# EAGLE library part ADC_TLV2544ID (library HuskyRobotics2017-18)
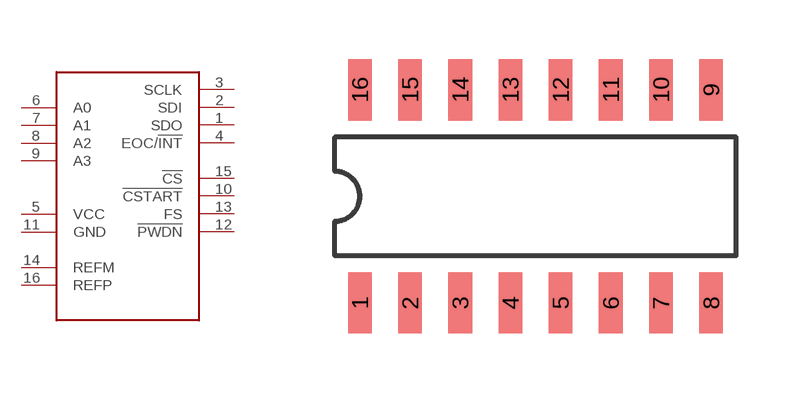
[diagram p4: symbol with the pads of 16SOIC3.9; footprint 16SOIC3.9]

Designator prefix -

## ADC_TLV2544IDTI_ADC_TLV2544ID  [16SOIC3.9]
1  SDO
2  SDI
3  SCLK
4  EOC/!INT
5  VCC
6  A0
7  A1
8  A2
9  A3
10  !CSTART
11  GND
12  !PWDN
13  FS
14  REFM
15  !CS
16  REFP

## Footprint 16SOIC3.9 (pad centres in mm)
Description: This footprint is a 16 pin 3.9mm SOIC device. It was created for the Texas Instruments TLV2544ID. <http://www.ti.com/lit/ds/symlink/tlv2544.pdf> Foot print based on recommendation of datasheet. Part of Husky Robotics 2017-2018 arm motor boards.
smd 0.6 x 1.55: 1 -4.445,-2.7; 2 -3.175,-2.7; 3 -1.905,-2.7; 4 -0.635,-2.7; 5 0.635,-2.7; 6 1.905,-2.7; 7 3.175,-2.7; 8 4.445,-2.7; 9 4.445,2.7; 10 3.175,2.7; 11 1.905,2.7; 12 0.635,2.7; 13 -0.635,2.7; 14 -1.905,2.7; 15 -3.175,2.7; 16 -4.445,2.7